# Altium schematic symbol library IND,7.5nH,570mA,Multilayer,0402.Schlib: 1 symbol
Pins are listed as number, name and electrical type; pins without a type are passive.

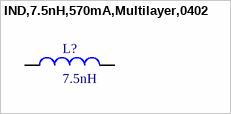
[diagram p0: symbol IND,7.5nH,570mA,Multilayer,0402]

## IND,7.5nH,570mA,Multilayer,0402
designator L?, comment 7.5nH
7.5nH Unshielded Wirewound Inductor 570mA 130mOhm Max 0402 (1005 Metric)
pins: 1, 2